# Altium schematic symbol library RES-TEMP.SchLib: 1 symbol
Pins are listed as number, name and electrical type; pins without a type are passive.

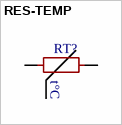
[diagram p0: symbol RES-TEMP]

## RES-TEMP
designator RT?
footprint NTC_MF52
pins: 1, 2
text: t°C